# Altium footprint library SMD_INDUCTOR_SLF6028_1.PcbLib: 1 footprints
Each footprint in its own frame and in the unit in brackets; x right, y up, seen from the top. Pads: shape width x height; smd on the part's side, far side on the other; paste and mask are expansions set on the pad; w line width, h text height; cw(c..) or ccw(c..) is an arc to the next point about the centre after c.
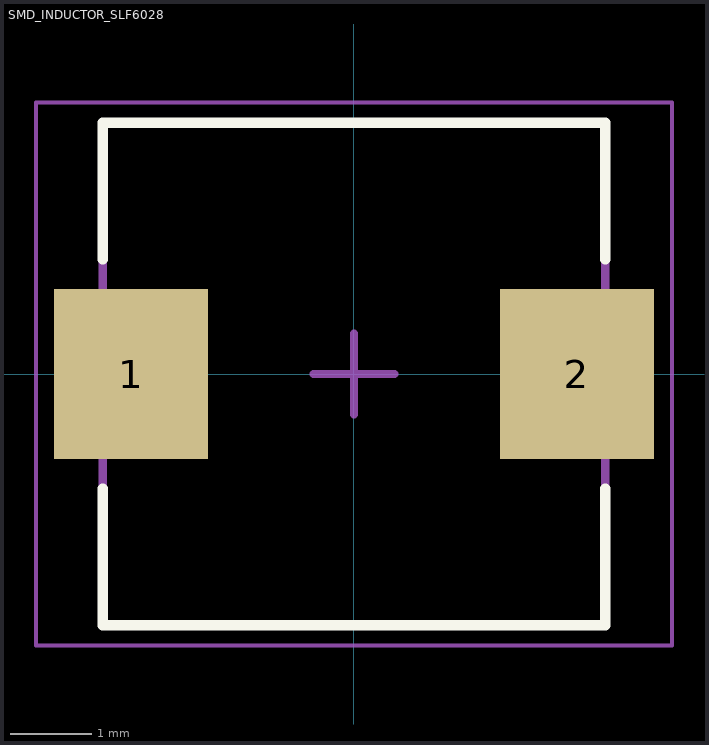
[diagram p0: the footprint, top view; thin cyan lines are the x and y axes]

## SMD_INDUCTOR_SLF6028 [mm] "Precision Wire Wound Inductor, 2-Leads, Body 6.00x6.00mm, IPC Medium Density"
height 3
pads (2):
  rect 1.9x2.1 smd: 1(-2.75,0) 2(2.75,0)
Top Overlay:
  lines w0.127: -3.1,-1.413 -3.1,-3.1 3.1,-3.1 3.1,-1.413 ; -3.1,1.413 -3.1,3.1 3.1,3.1 3.1,1.413
Mechanical 13:
  lines w0.1: -3.1,-3.1 3.1,-3.1 3.1,3.1 -3.1,3.1 -3.1,-3.1
Mechanical 15:
  lines w0.05: -3.925,-3.35 3.925,-3.35 3.925,3.35 -3.925,3.35 -3.925,-3.35
  lines w0.1: -0.5,0 0.5,0 ; 0,-0.5 0,0.5
3D body "SMD_INDUCTOR_SLF6028.step": height 3.1, standoff 0, extent -3.1,-3 3.1,3